# EAGLE library part LTC4120-4.2V (library foe-scale)
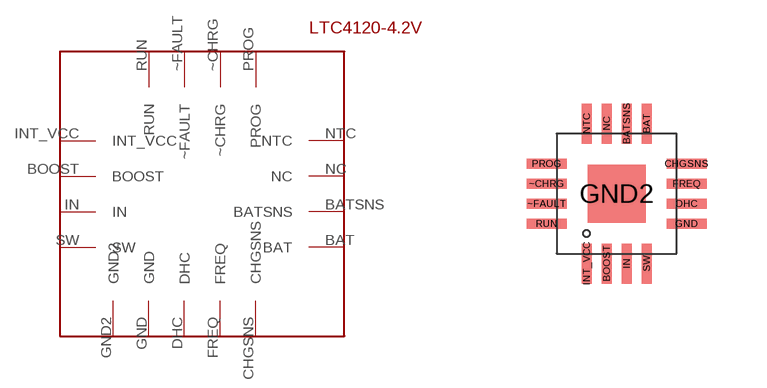
[diagram p18: symbol with the pads of LTC4120-4.2V; footprint LTC4120-4.2V]

Designator prefix -

## LTC4120-4.2V  [LTC4120-4.2V]
BAT  BAT
BATSNS  BATSNS
BOOST  BOOST
CHGSNS  CHGSNS
DHC  DHC
FREQ  FREQ
GND  GND
GND2  GND2
IN  IN
INT_VCC  INT_VCC
NC  NC
NTC  NTC
PROG  PROG
RUN  RUN
SW  SW
~CHRG  ~CHRG
~FAULT  ~FAULT

## Footprint LTC4120-4.2V (pad centres in mm)
smd 0.25 x 1: BAT 0.75,1.75; BATSNS 0.25,1.75; BOOST -0.25,-1.75; IN 0.25,-1.75; INT_VCC -0.75,-1.75; NC -0.25,1.75; NTC -0.75,1.75; SW 0.75,-1.75
smd 1 x 0.25: CHGSNS 1.75,0.75; DHC 1.75,-0.25; FREQ 1.75,0.25; GND 1.75,-0.75; PROG -1.75,0.75; RUN -1.75,-0.75; ~CHRG -1.75,0.25; ~FAULT -1.75,-0.25
smd 1.45 x 1.45: GND2 0,0